# Altium integrated library TI Interface Line Driver.IntLib: 130 symbols (part 1 of 3)
Pins are listed as number, name and electrical type; pins without a type are passive.

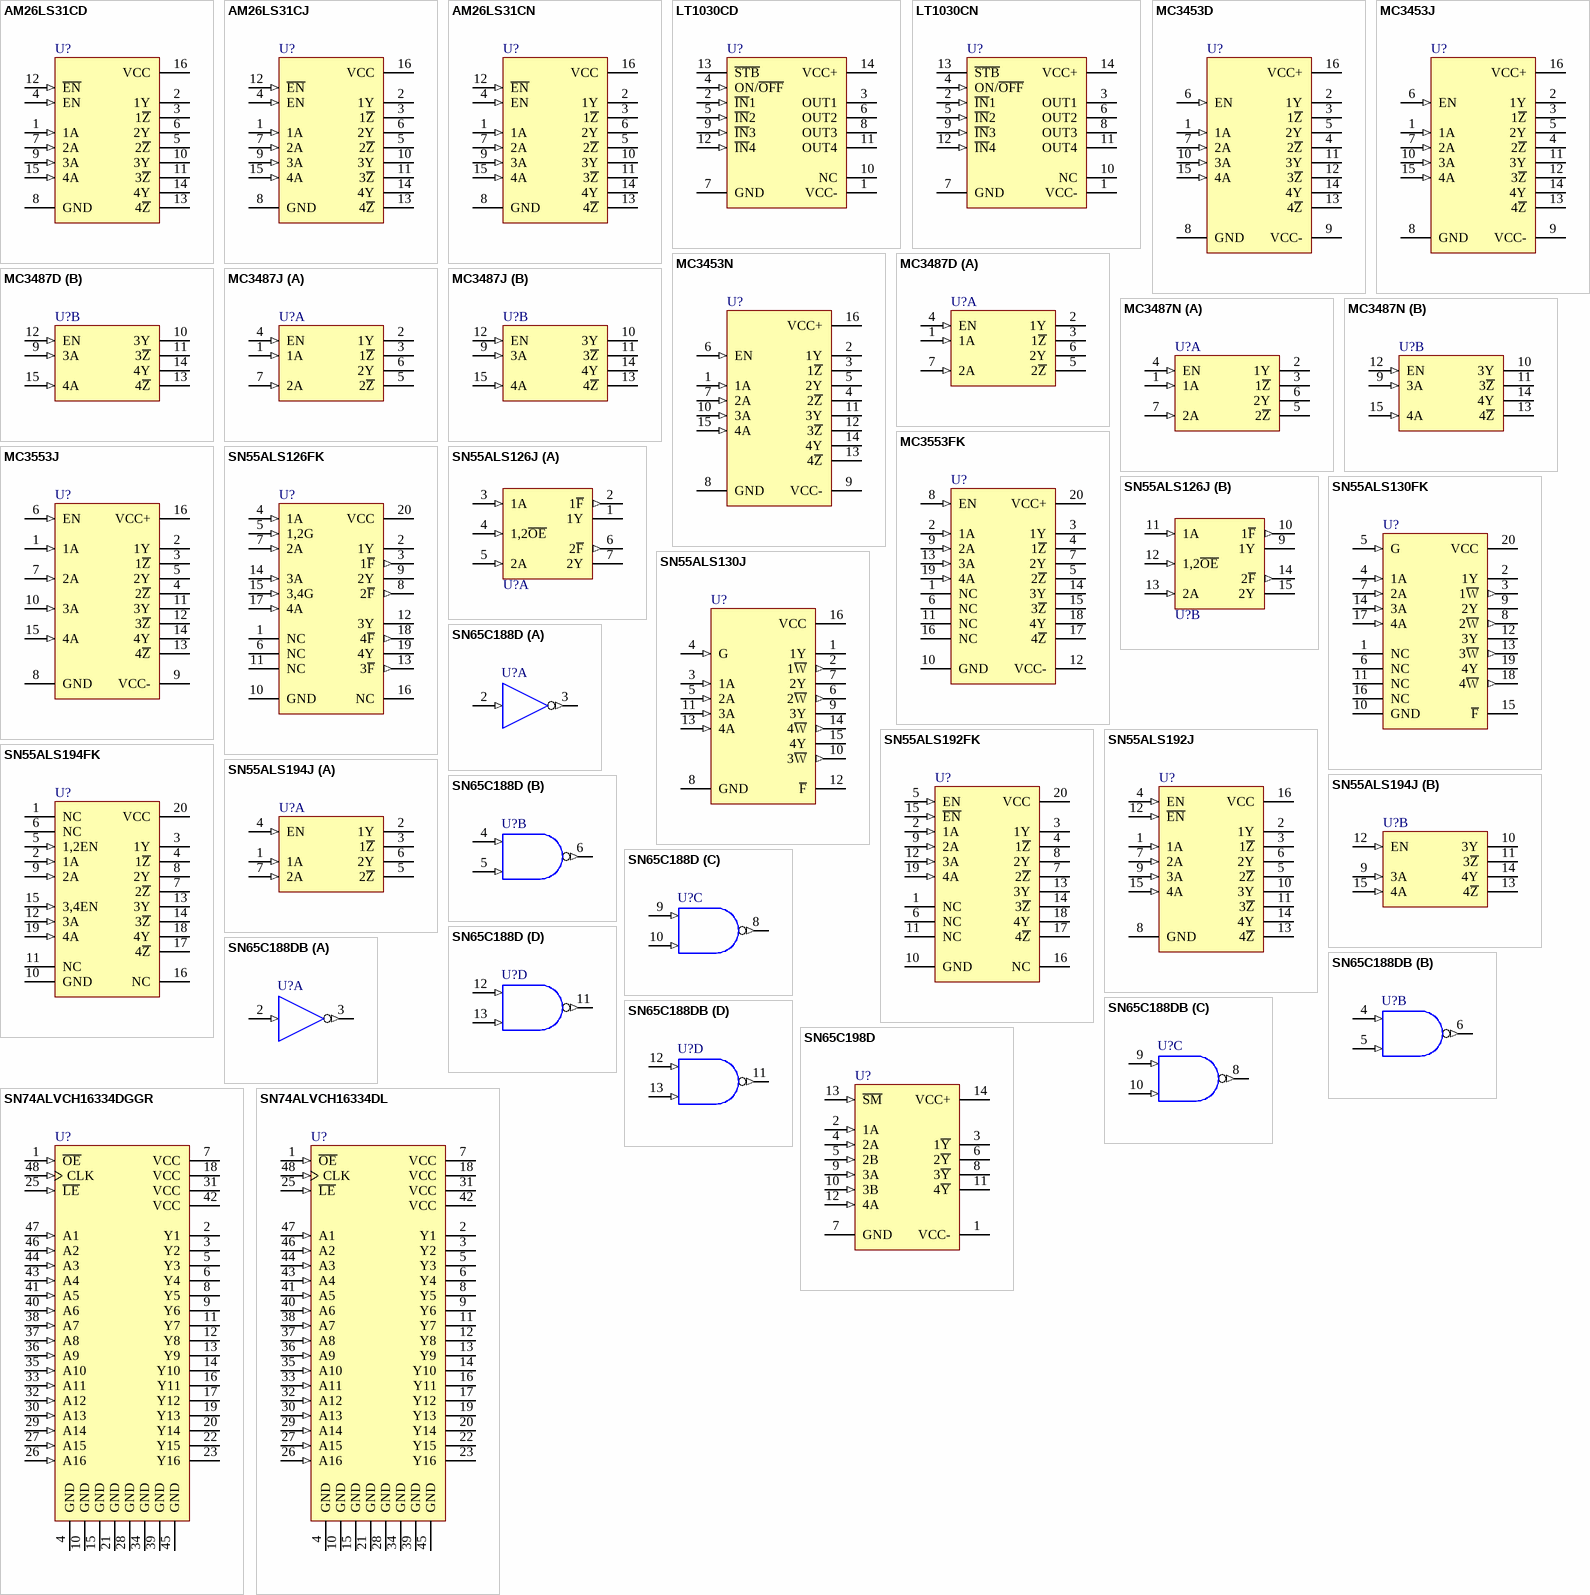
[diagram p0: symbols AM26LS31CD to SN74ALVCH16334DL]

## AM26LS31CD
designator U?
Quadruple Differential Line Driver; Published: 15-May-2002; LatestRevisionDate: 13-Apr-2006; LatestRevisionNote: IPC-7351 Footprint Added.; DatasheetVersion: May-1990; PackageVersion: Jan-1998; PackageReference: D016; Publisher: Altium Limited; PackageDescription: 16-Pin Small Outline Integrated Circuit 1.27 mm Pitch; Code_IPC: SOIC127P600-16; ComponentLink1Description: Manufacturer Link; ComponentLink1URL: http://www.ti.com/; ComponentLink2Description: Datasheet; ComponentLink2URL: http://www-s.ti.com/sc/ds/am26ls31.pdf
footprint D016_N (SOIC, 16-Leads, Body 9.9x3.9mm, Pitch 1.27mm, IPC Medium Density)
footprint D016_L (SOIC, 16-Leads, Body 9.9x3.9mm, Pitch 1.27mm, IPC High Density)
footprint D016_M (SOIC, 16-Leads, Body 9.9x3.9mm, Pitch 1.27mm, IPC Low Density)
3D model D016 (16-Pin Small Outline Integrated Circuit 1.27 mm Pitch)
pins: 1 1A (in), 2 1Y (hiz), 3 1~{Z} (hiz), 4 EN (in), 5 2~{Z} (hiz), 6 2Y (hiz), 7 2A (in), 8 GND (power), 9 3A (in), 10 3Y (hiz), 11 3~{Z} (hiz), 12 ~{EN} (in), 13 4~{Z} (hiz), 14 4Y (hiz), 15 4A (in), 16 VCC (power)

## AM26LS31CJ
designator U?
Quadruple Differential Line Driver; Published: 15-May-2002; LatestRevisionDate: 29-May-2009; LatestRevisionNote: Component Body Added.; DatasheetVersion: May-1990; PackageVersion: Jun-1999; PackageReference: J016; Publisher: Altium Limited; PackageDescription: DIP, Ceramic, 16-Pin, Row Spacing 7.62 mm, Pitch 2.54 mm; ComponentLink1Description: Manufacturer Link; ComponentLink1URL: http://www.ti.com/
footprint J016 (DIP, 16-Leads, Row Spacing 7.62mm, Pitch 2.54mm, Body 19.56x6.92mm)
3D model J016 (DIP, Ceramic, 16-Pin, Row Spacing 7.62 mm, Pitch 2.54 mm)
pins: 1 1A (in), 2 1Y (hiz), 3 1~{Z} (hiz), 4 EN (in), 5 2~{Z} (hiz), 6 2Y (hiz), 7 2A (in), 8 GND (power), 9 3A (in), 10 3Y (hiz), 11 3~{Z} (hiz), 12 ~{EN} (in), 13 4~{Z} (hiz), 14 4Y (hiz), 15 4A (in), 16 VCC (power)

## AM26LS31CN
designator U?
Quadruple Differential Line Driver; Published: 15-May-2002; LatestRevisionDate: 29-May-2009; LatestRevisionNote: Component Body Added.; DatasheetVersion: May-1990; PackageVersion: Oct-1995; PackageReference: N016; Publisher: Altium Limited; PackageDescription: DIP, 16-Pin, Row Spacing 7.62 mm, Pitch 2.54 mm; Code_JEDEC: MS-001-BB; ComponentLink1Description: Manufacturer Link; ComponentLink1URL: http://www.ti.com/; ComponentLink2Description: Datasheet; ComponentLink2URL: http://www-s.ti.com/sc/ds/am26ls31.pdf
footprint N016 (DIP, 16-Leads, Row Spacing 7.62mm, Pitch 2.54mm, Body 19.31x6.35mm)
3D model N016 (DIP, 16-Pin, Row Spacing 7.62 mm, Pitch 2.54 mm)
pins: 1 1A (in), 2 1Y (hiz), 3 1~{Z} (hiz), 4 EN (in), 5 2~{Z} (hiz), 6 2Y (hiz), 7 2A (in), 8 GND (power), 9 3A (in), 10 3Y (hiz), 11 3~{Z} (hiz), 12 ~{EN} (in), 13 4~{Z} (hiz), 14 4Y (hiz), 15 4A (in), 16 VCC (power)

## LT1030CD
designator U?
Quad Low-Power Line Driver; Published: 15-May-2002; LatestRevisionDate: 13-Apr-2006; LatestRevisionNote: IPC-7351 Footprint Added.; DatasheetVersion: Jul-1989; PackageVersion: Nov-2006; PackageReference: D014; Publisher: Altium Limited; PackageDescription: 14-Pin Small Outline Integrated Circuit 1.27 mm Pitch; Code_JEDEC: MS-012-AB; Code_IPC: SOIC127P600-14; ComponentLink1Description: Manufacturer Link; ComponentLink1URL: http://www.ti.com/; ComponentLink2Description: Datasheet; ComponentLink2URL: http://www-s.ti.com/sc/ds/lt1030.pdf
footprint D014_N (SOIC, 14-Leads, Body 8.7x3.9mm, Pitch 1.27mm, IPC Medium Density)
footprint D014_L (SOIC, 14-Leads, Body 8.7x3.9mm, Pitch 1.27mm, IPC High Density)
footprint D014_M (SOIC, 14-Leads, Body 8.7x3.9mm, Pitch 1.27mm, IPC Low Density)
3D model D014 (14-Pin Small Outline Integrated Circuit 1.27 mm Pitch)
pins: 1 VCC- (power), 2 ~{IN}1 (in), 3 OUT1 (hiz), 4 ON/~{OFF} (in), 5 ~{IN}2 (in), 6 OUT2 (hiz), 7 GND (power), 8 OUT3 (hiz), 9 ~{IN}3 (in), 10 NC, 11 OUT4 (hiz), 12 ~{IN}4 (in), 13 ~{STB}, 14 VCC+ (power)

## LT1030CN
designator U?
Quad Low-Power Line Driver; Published: 15-May-2002; LatestRevisionDate: 29-May-2009; LatestRevisionNote: Component Body Added.; DatasheetVersion: Jul-1989; PackageVersion: Oct-1995; PackageReference: N014; Publisher: Altium Limited; PackageDescription: DIP, 14-Pin, Row Spacing 7.62 mm, Pitch 2.54 mm; ComponentLink1Description: Manufacturer Link; ComponentLink1URL: http://www.ti.com/; ComponentLink2Description: Datasheet; ComponentLink2URL: http://www-s.ti.com/sc/ds/lt1030.pdf
footprint N014 (DIP, 14-Leads, Row Spacing 7.62mm, Pitch 2.54mm, Body 19.31x6.35mm)
3D model N014 (DIP, 14-Pin, Row Spacing 7.62 mm, Pitch 2.54 mm)
pins: 1 VCC- (power), 2 ~{IN}1 (in), 3 OUT1 (hiz), 4 ON/~{OFF} (in), 5 ~{IN}2 (in), 6 OUT2 (hiz), 7 GND (power), 8 OUT3 (hiz), 9 ~{IN}3 (in), 10 NC, 11 OUT4 (hiz), 12 ~{IN}4 (in), 13 ~{STB}, 14 VCC+ (power)

## MC3453D
designator U?
Quadruple Line Driver with Common Enable; Note: To minimise power dissipation, all unused outputs should be grounded.; ComponentAvailability: Obsolete; Published: 15-May-2002; LatestRevisionDate: 13-Apr-2006; LatestRevisionNote: IPC-7351 Footprint Added.; DatasheetVersion: Jul-1990; PackageVersion: Jan-1998; PackageReference: D016; Publisher: Altium Limited; PackageDescription: 16-Pin Small Outline Integrated Circuit 1.27 mm Pitch; Code_IPC: SOIC127P600-16; ComponentLink1Description: Manufacturer Link; ComponentLink1URL: http://www.ti.com/; ComponentLink2Description: Datasheet; ComponentLink2URL: http://www-s.ti.com/sc/ds/mc3453.pdf
footprint D016_N (SOIC, 16-Leads, Body 9.9x3.9mm, Pitch 1.27mm, IPC Medium Density)
footprint D016_L (SOIC, 16-Leads, Body 9.9x3.9mm, Pitch 1.27mm, IPC High Density)
footprint D016_M (SOIC, 16-Leads, Body 9.9x3.9mm, Pitch 1.27mm, IPC Low Density)
3D model D016 (16-Pin Small Outline Integrated Circuit 1.27 mm Pitch)
pins: 1 1A (in), 2 1Y (oc), 3 1~{Z} (oc), 4 2~{Z} (oc), 5 2Y (oc), 6 EN (in), 7 2A (in), 8 GND (power), 9 VCC- (power), 10 3A (in), 11 3Y (oc), 12 3~{Z} (oc), 13 4~{Z} (oc), 14 4Y (oc), 15 4A (in), 16 VCC+ (power)

## MC3453J
designator U?
Quadruple Line Driver with Common Enable; Note: To minimise power dissipation, all unused outputs should be grounded.; Published: 15-May-2002; LatestRevisionDate: 29-May-2009; LatestRevisionNote: Component Body Added.; DatasheetVersion: Jul-1990; PackageVersion: Jun-1999; PackageReference: J016; Publisher: Altium Limited; PackageDescription: DIP, Ceramic, 16-Pin, Row Spacing 7.62 mm, Pitch 2.54 mm; ComponentLink1Description: Manufacturer Link; ComponentLink1URL: http://www.ti.com/; ComponentLink2Description: Datasheet; ComponentLink2URL: http://www-s.ti.com/sc/ds/mc3453.pdf
footprint J016 (DIP, 16-Leads, Row Spacing 7.62mm, Pitch 2.54mm, Body 19.56x6.92mm)
3D model J016 (DIP, Ceramic, 16-Pin, Row Spacing 7.62 mm, Pitch 2.54 mm)
pins: 1 1A (in), 2 1Y (oc), 3 1~{Z} (oc), 4 2~{Z} (oc), 5 2Y (oc), 6 EN (in), 7 2A (in), 8 GND (power), 9 VCC- (power), 10 3A (in), 11 3Y (oc), 12 3~{Z} (oc), 13 4~{Z} (oc), 14 4Y (oc), 15 4A (in), 16 VCC+ (power)

## MC3453N
designator U?
Quadruple Line Driver with Common Enable; Note: To minimise power dissipation, all unused outputs should be grounded.; Published: 15-May-2002; LatestRevisionDate: 29-May-2009; LatestRevisionNote: Component Body Added.; DatasheetVersion: Jul-1990; PackageVersion: Oct-1995; PackageReference: N016; Publisher: Altium Limited; PackageDescription: DIP, 16-Pin, Row Spacing 7.62 mm, Pitch 2.54 mm; Code_JEDEC: MS-001-BB; ComponentLink1Description: Manufacturer Link; ComponentLink1URL: http://www.ti.com/; ComponentLink2Description: Datasheet; ComponentLink2URL: http://www-s.ti.com/sc/ds/mc3453.pdf
footprint N016 (DIP, 16-Leads, Row Spacing 7.62mm, Pitch 2.54mm, Body 19.31x6.35mm)
3D model N016 (DIP, 16-Pin, Row Spacing 7.62 mm, Pitch 2.54 mm)
pins: 1 1A (in), 2 1Y (oc), 3 1~{Z} (oc), 4 2~{Z} (oc), 5 2Y (oc), 6 EN (in), 7 2A (in), 8 GND (power), 9 VCC- (power), 10 3A (in), 11 3Y (oc), 12 3~{Z} (oc), 13 4~{Z} (oc), 14 4Y (oc), 15 4A (in), 16 VCC+ (power)

## MC3487D
designator U?
Quadruple Differential Line Driver with 3-State Output; Published: 15-May-2002; LatestRevisionDate: 13-Apr-2006; LatestRevisionNote: IPC-7351 Footprint Added.; DatasheetVersion: Sep-1986; PackageVersion: Jan-1998; PackageReference: D016; Publisher: Altium Limited; PackageDescription: 16-Pin Small Outline Integrated Circuit 1.27 mm Pitch; Code_IPC: SOIC127P600-16; ComponentLink1Description: Manufacturer Link; ComponentLink1URL: http://www.ti.com/; ComponentLink2Description: Datasheet; ComponentLink2URL: http://www-s.ti.com/sc/ds/mc3487.pdf
footprint D016_N (SOIC, 16-Leads, Body 9.9x3.9mm, Pitch 1.27mm, IPC Medium Density)
footprint D016_L (SOIC, 16-Leads, Body 9.9x3.9mm, Pitch 1.27mm, IPC High Density)
footprint D016_M (SOIC, 16-Leads, Body 9.9x3.9mm, Pitch 1.27mm, IPC Low Density)
3D model D016 (16-Pin Small Outline Integrated Circuit 1.27 mm Pitch)
pins on every part: 8 GND (power) hidden to GND, 16 VCC (power) hidden to VCC
part A pins: 1 1A (in), 2 1Y (hiz), 3 1~{Z} (hiz), 4 EN (in), 5 2~{Z} (hiz), 6 2Y (hiz), 7 2A (in)
part B pins: 9 3A (in), 10 3Y (hiz), 11 3~{Z} (hiz), 12 EN (in), 13 4~{Z} (hiz), 14 4Y (hiz), 15 4A (in)

## MC3487J
designator U?
Quadruple Differential Line Driver with 3-State Output; ComponentAvailability: Obsolete; Published: 15-May-2002; LatestRevisionDate: 29-May-2009; LatestRevisionNote: Component Body Added.; DatasheetVersion: Sep-1986; PackageVersion: Jun-1999; PackageReference: J016; Publisher: Altium Limited; PackageDescription: DIP, Ceramic, 16-Pin, Row Spacing 7.62 mm, Pitch 2.54 mm; ComponentLink1Description: Manufacturer Link; ComponentLink1URL: http://www.ti.com/; ComponentLink2Description: Datasheet; ComponentLink2URL: http://www-s.ti.com/sc/ds/mc3487.pdf
footprint J016 (DIP, 16-Leads, Row Spacing 7.62mm, Pitch 2.54mm, Body 19.56x6.92mm)
3D model J016 (DIP, Ceramic, 16-Pin, Row Spacing 7.62 mm, Pitch 2.54 mm)
pins on every part: 8 GND (power) hidden to GND, 16 VCC (power) hidden to VCC
part A pins: 1 1A (in), 2 1Y (hiz), 3 1~{Z} (hiz), 4 EN (in), 5 2~{Z} (hiz), 6 2Y (hiz), 7 2A (in)
part B pins: 9 3A (in), 10 3Y (hiz), 11 3~{Z} (hiz), 12 EN (in), 13 4~{Z} (hiz), 14 4Y (hiz), 15 4A (in)

## MC3487N
designator U?
Quadruple Differential Line Driver with 3-State Output; Published: 15-May-2002; LatestRevisionDate: 29-May-2009; LatestRevisionNote: Component Body Added.; DatasheetVersion: Sep-1986; PackageVersion: Oct-1995; PackageReference: N016; Publisher: Altium Limited; PackageDescription: DIP, 16-Pin, Row Spacing 7.62 mm, Pitch 2.54 mm; Code_JEDEC: MS-001-BB; ComponentLink1Description: Manufacturer Link; ComponentLink1URL: http://www.ti.com/; ComponentLink2Description: Datasheet; ComponentLink2URL: http://www-s.ti.com/sc/ds/mc3487.pdf
footprint N016 (DIP, 16-Leads, Row Spacing 7.62mm, Pitch 2.54mm, Body 19.31x6.35mm)
3D model N016 (DIP, 16-Pin, Row Spacing 7.62 mm, Pitch 2.54 mm)
pins on every part: 8 GND (power) hidden to GND, 16 VCC (power) hidden to VCC
part A pins: 1 1A (in), 2 1Y (hiz), 3 1~{Z} (hiz), 4 EN (in), 5 2~{Z} (hiz), 6 2Y (hiz), 7 2A (in)
part B pins: 9 3A (in), 10 3Y (hiz), 11 3~{Z} (hiz), 12 EN (in), 13 4~{Z} (hiz), 14 4Y (hiz), 15 4A (in)

## MC3553FK
designator U?
Quadruple Line Driver with Common Enable; Note: To minimise power dissipation, all unused outputs should be grounded.; Published: 15-May-2002; LatestRevisionDate: 29-May-2009; LatestRevisionNote: IPC-7351 Footprint Added.; DatasheetVersion: Oct-1988; PackageVersion: 1998; PackageReference: FK020; Publisher: Altium Limited; PackageDescription: 20-Pin Leadless Chip Carrier 1.27 mm Pitch; Code_JEDEC: MS-004-CB; ComponentLink1Description: Manufacturer Link; ComponentLink1URL: http://www.ti.com/; ComponentLink2Description: Datasheet; ComponentLink2URL: http://www-s.ti.com/sc/ds/mc3453.pdf
footprint FK020_N (Leadless Chip Carrier, 20-Leads, Body 8.9x8.9mm, Pitch 1.27mm, IPC Medium Density)
footprint FK020_L (Leadless Chip Carrier, 20-Leads, Body 8.9x8.9mm, Pitch 1.27mm, IPC High Density)
footprint FK020_M (Leadless Chip Carrier, 20-Leads, Body 8.9x8.9mm, Pitch 1.27mm, IPC Low Density)
pins: 1 NC, 2 1A (in), 3 1Y (oc), 4 1~{Z} (oc), 5 2~{Z} (oc), 6 NC, 7 2Y (oc), 8 EN (in), 9 2A (in), 10 GND (power), 11 NC, 12 VCC- (power), 13 3A (in), 14 3Y (oc), 15 3~{Z} (oc), 16 NC, 17 4~{Z} (oc), 18 4Y (oc), 19 4A (in), 20 VCC+ (power)

## MC3553J
designator U?
Quadruple Line Driver with Common Enable; Note: To minimise power dissipation, all unused outputs should be grounded.; Published: 15-May-2002; LatestRevisionDate: 29-May-2009; LatestRevisionNote: Component Body Added.; DatasheetVersion: Oct-1988; PackageVersion: Jun-1999; PackageReference: J016; Publisher: Altium Limited; PackageDescription: DIP, Ceramic, 16-Pin, Row Spacing 7.62 mm, Pitch 2.54 mm; ComponentLink1Description: Manufacturer Link; ComponentLink1URL: http://www.ti.com/; ComponentLink2Description: Datasheet; ComponentLink2URL: http://www-s.ti.com/sc/ds/mc3453.pdf
footprint J016 (DIP, 16-Leads, Row Spacing 7.62mm, Pitch 2.54mm, Body 19.56x6.92mm)
3D model J016 (DIP, Ceramic, 16-Pin, Row Spacing 7.62 mm, Pitch 2.54 mm)
pins: 1 1A (in), 2 1Y (oc), 3 1~{Z} (oc), 4 2~{Z} (oc), 5 2Y (oc), 6 EN (in), 7 2A (in), 8 GND (power), 9 VCC- (power), 10 3A (in), 11 3Y (oc), 12 3~{Z} (oc), 13 4~{Z} (oc), 14 4Y (oc), 15 4A (in), 16 VCC+ (power)

## SN55ALS126FK
designator U?
Quadruple Line Driver; Published: 15-May-2002; LatestRevisionDate: 29-May-2009; LatestRevisionNote: IPC-7351 Footprint Added.; DatasheetVersion: Oct-1989; PackageVersion: 1998; PackageReference: FK020; Publisher: Altium Limited; PackageDescription: 20-Pin Leadless Chip Carrier 1.27 mm Pitch; Code_JEDEC: MS-004-CB; ComponentLink1Description: Manufacturer Link; ComponentLink1URL: http://www.ti.com/
footprint FK020_N (Leadless Chip Carrier, 20-Leads, Body 8.9x8.9mm, Pitch 1.27mm, IPC Medium Density)
footprint FK020_L (Leadless Chip Carrier, 20-Leads, Body 8.9x8.9mm, Pitch 1.27mm, IPC High Density)
footprint FK020_M (Leadless Chip Carrier, 20-Leads, Body 8.9x8.9mm, Pitch 1.27mm, IPC Low Density)
pins: 1 NC, 2 1Y (oe), 3 1~{F} (out), 4 1A (in), 5 1,2G (in), 6 NC, 7 2A (in), 8 2~{F} (out), 9 2Y (oe), 10 GND (power), 11 NC, 12 3Y (oe), 13 3~{F} (out), 14 3A (in), 15 3,4G (in), 16 NC, 17 4A (in), 18 4~{F} (out), 19 4Y (oe), 20 VCC (power)

## SN55ALS126J
designator U?
Quadruple Line Driver; Published: 15-May-2002; LatestRevisionDate: 29-May-2009; LatestRevisionNote: Component Body Added.; DatasheetVersion: Oct-1989; PackageVersion: Jun-1999; PackageReference: J016; Publisher: Altium Limited; PackageDescription: DIP, Ceramic, 16-Pin, Row Spacing 7.62 mm, Pitch 2.54 mm; ComponentLink1Description: Manufacturer Link; ComponentLink1URL: http://www.ti.com/
footprint J016 (DIP, 16-Leads, Row Spacing 7.62mm, Pitch 2.54mm, Body 19.56x6.92mm)
3D model J016 (DIP, Ceramic, 16-Pin, Row Spacing 7.62 mm, Pitch 2.54 mm)
pins on every part: 8 GND (power) hidden to GND, 16 VCC (power) hidden to VCC
part A pins: 1 1Y (oe), 2 1~{F} (out), 3 1A (in), 4 1,2~{OE} (in), 5 2A (in), 6 2~{F} (out), 7 2Y (oe)
part B pins: 9 1Y (oe), 10 1~{F} (out), 11 1A (in), 12 1,2~{OE} (in), 13 2A (in), 14 2~{F} (out), 15 2Y (oe)

## SN55ALS130FK
designator U?
Quadruple Line Driver; Published: 15-May-2002; LatestRevisionDate: 29-May-2009; LatestRevisionNote: IPC-7351 Footprint Added.; DatasheetVersion: Aug-1989; PackageVersion: 1998; PackageReference: FK020; Publisher: Altium Limited; PackageDescription: 20-Pin Leadless Chip Carrier 1.27 mm Pitch; Code_JEDEC: MS-004-CB; ComponentLink1Description: Manufacturer Link; ComponentLink1URL: http://www.ti.com/
footprint FK020_N (Leadless Chip Carrier, 20-Leads, Body 8.9x8.9mm, Pitch 1.27mm, IPC Medium Density)
footprint FK020_L (Leadless Chip Carrier, 20-Leads, Body 8.9x8.9mm, Pitch 1.27mm, IPC High Density)
footprint FK020_M (Leadless Chip Carrier, 20-Leads, Body 8.9x8.9mm, Pitch 1.27mm, IPC Low Density)
pins: 1 NC, 2 1Y (oe), 3 1~{W} (out), 4 1A (in), 5 G (in), 6 NC, 7 2A (in), 8 2~{W} (out), 9 2Y (oe), 10 GND (power), 11 NC, 12 3Y (oe), 13 3~{W} (out), 14 3A (in), 15 ~{F} (oc), 16 NC, 17 4A (in), 18 4~{W} (out), 19 4Y (oe), 20 VCC (power)

## SN55ALS130J
designator U?
Quadruple Line Driver; Published: 15-May-2002; LatestRevisionDate: 29-May-2009; LatestRevisionNote: Component Body Added.; DatasheetVersion: Aug-1989; PackageVersion: Jun-1999; PackageReference: J016; Publisher: Altium Limited; PackageDescription: DIP, Ceramic, 16-Pin, Row Spacing 7.62 mm, Pitch 2.54 mm; ComponentLink1Description: Manufacturer Link; ComponentLink1URL: http://www.ti.com/
footprint J016 (DIP, 16-Leads, Row Spacing 7.62mm, Pitch 2.54mm, Body 19.56x6.92mm)
3D model J016 (DIP, Ceramic, 16-Pin, Row Spacing 7.62 mm, Pitch 2.54 mm)
pins: 1 1Y (oe), 2 1~{W} (out), 3 1A (in), 4 G (in), 5 2A (in), 6 2~{W} (out), 7 2Y (oe), 8 GND (power), 9 3Y (oe), 10 3~{W} (out), 11 3A (in), 12 ~{F} (oc), 13 4A (in), 14 4~{W} (out), 15 4Y (oe), 16 VCC (power)

## SN55ALS192FK
designator U?
Quadruple Differential Line Driver; Published: 15-May-2002; LatestRevisionDate: 29-May-2009; LatestRevisionNote: IPC-7351 Footprint Added.; DatasheetVersion: Jun-1986; PackageVersion: 1998; PackageReference: FK020; Publisher: Altium Limited; PackageDescription: 20-Pin Leadless Chip Carrier 1.27 mm Pitch; Code_JEDEC: MS-004-CB; ComponentLink1Description: Manufacturer Link; ComponentLink1URL: http://www.ti.com/
footprint FK020_N (Leadless Chip Carrier, 20-Leads, Body 8.9x8.9mm, Pitch 1.27mm, IPC Medium Density)
footprint FK020_L (Leadless Chip Carrier, 20-Leads, Body 8.9x8.9mm, Pitch 1.27mm, IPC High Density)
footprint FK020_M (Leadless Chip Carrier, 20-Leads, Body 8.9x8.9mm, Pitch 1.27mm, IPC Low Density)
pins: 1 NC, 2 1A (in), 3 1Y (hiz), 4 1~{Z} (hiz), 5 EN (in), 6 NC, 7 2~{Z} (hiz), 8 2Y (hiz), 9 2A (in), 10 GND (power), 11 NC, 12 3A (in), 13 3Y (hiz), 14 3~{Z} (hiz), 15 ~{EN} (in), 16 NC, 17 4~{Z} (hiz), 18 4Y (hiz), 19 4A (in), 20 VCC (power)

## SN55ALS192J
designator U?
Quadruple Differential Line Driver; ComponentAvailability: Obsolete; Published: 15-May-2002; LatestRevisionDate: 29-May-2009; LatestRevisionNote: Component Body Added.; DatasheetVersion: Jun-1986; PackageVersion: Jun-1999; PackageReference: J016; Publisher: Altium Limited; PackageDescription: DIP, Ceramic, 16-Pin, Row Spacing 7.62 mm, Pitch 2.54 mm; ComponentLink1Description: Manufacturer Link; ComponentLink1URL: http://www.ti.com/; ComponentLink2Description: URL Link1; ComponentLink2URL: http://focus.ti.com/docs/prod/folders/print/sn55als192.html
footprint J016 (DIP, 16-Leads, Row Spacing 7.62mm, Pitch 2.54mm, Body 19.56x6.92mm)
3D model J016 (DIP, Ceramic, 16-Pin, Row Spacing 7.62 mm, Pitch 2.54 mm)
pins: 1 1A (in), 2 1Y (hiz), 3 1~{Z} (hiz), 4 EN (in), 5 2~{Z} (hiz), 6 2Y (hiz), 7 2A (in), 8 GND (power), 9 3A (in), 10 3Y (hiz), 11 3~{Z} (hiz), 12 ~{EN} (in), 13 4~{Z} (hiz), 14 4Y (hiz), 15 4A (in), 16 VCC (power)

## SN55ALS194FK
designator U?
Quadruple Differential Line Driver with 3-State Output; Published: 15-May-2002; LatestRevisionDate: 29-May-2009; LatestRevisionNote: IPC-7351 Footprint Added.; DatasheetVersion: Oct-1988; PackageVersion: 1998; PackageReference: FK020; Publisher: Altium Limited; PackageDescription: 20-Pin Leadless Chip Carrier 1.27 mm Pitch; Code_JEDEC: MS-004-CB; ComponentLink1Description: Manufacturer Link; ComponentLink1URL: http://www.ti.com/
footprint FK020_N (Leadless Chip Carrier, 20-Leads, Body 8.9x8.9mm, Pitch 1.27mm, IPC Medium Density)
footprint FK020_L (Leadless Chip Carrier, 20-Leads, Body 8.9x8.9mm, Pitch 1.27mm, IPC High Density)
footprint FK020_M (Leadless Chip Carrier, 20-Leads, Body 8.9x8.9mm, Pitch 1.27mm, IPC Low Density)
pins: 1 NC, 2 1A (in), 3 1Y (hiz), 4 1~{Z} (hiz), 5 1,2EN (in), 6 NC, 7 2~{Z} (hiz), 8 2Y (hiz), 9 2A (in), 10 GND (power), 11 NC, 12 3A (in), 13 3Y (hiz), 14 3~{Z} (hiz), 15 3,4EN (in), 16 NC, 17 4~{Z} (hiz), 18 4Y (hiz), 19 4A (in), 20 VCC (power)

## SN55ALS194J
designator U?
Quadruple Differential Line Driver with 3-State Output; ComponentAvailability: Obsolete; Published: 15-May-2002; LatestRevisionDate: 29-May-2009; LatestRevisionNote: Component Body Added.; DatasheetVersion: Oct-1988; PackageVersion: Jun-1999; PackageReference: J016; Publisher: Altium Limited; PackageDescription: DIP, Ceramic, 16-Pin, Row Spacing 7.62 mm, Pitch 2.54 mm; ComponentLink1Description: Manufacturer Link; ComponentLink1URL: http://www.ti.com/; ComponentLink2Description: Datasheet; ComponentLink2URL: http://www-s.ti.com/sc/ds/sn55als194.pdf
footprint J016 (DIP, 16-Leads, Row Spacing 7.62mm, Pitch 2.54mm, Body 19.56x6.92mm)
3D model J016 (DIP, Ceramic, 16-Pin, Row Spacing 7.62 mm, Pitch 2.54 mm)
pins on every part: 8 GND (power) hidden to GND, 16 VCC (power) hidden to VCC
part A pins: 1 1A (in), 2 1Y (hiz), 3 1~{Z} (hiz), 4 EN (in), 5 2~{Z} (hiz), 6 2Y (hiz), 7 2A (in)
part B pins: 9 3A (in), 10 3Y (hiz), 11 3~{Z} (hiz), 12 EN (in), 13 4~{Z} (hiz), 14 4Y (hiz), 15 4A (in)

## SN65C188D
designator U?
Quadruple Low Power Line Driver; ComponentAvailability: Obsolete; Published: 15-May-2002; LatestRevisionDate: 13-Apr-2006; LatestRevisionNote: IPC-7351 Footprint Added.; DatasheetVersion: May-1990; PackageVersion: Nov-2006; PackageReference: D014; Publisher: Altium Limited; PackageDescription: 14-Pin Small Outline Integrated Circuit 1.27 mm Pitch; Code_JEDEC: MS-012-AB; Code_IPC: SOIC127P600-14; ComponentLink1Description: Manufacturer Link; ComponentLink1URL: http://www.ti.com/; ComponentLink2Description: URL Link1; ComponentLink2URL: http://focus.ti.com/docs/prod/folders/print/sn65c188.html
footprint D014_N (SOIC, 14-Leads, Body 8.7x3.9mm, Pitch 1.27mm, IPC Medium Density)
footprint D014_L (SOIC, 14-Leads, Body 8.7x3.9mm, Pitch 1.27mm, IPC High Density)
footprint D014_M (SOIC, 14-Leads, Body 8.7x3.9mm, Pitch 1.27mm, IPC Low Density)
3D model D014 (14-Pin Small Outline Integrated Circuit 1.27 mm Pitch)
pins on every part: 1 VCC- (power) hidden to VCC-, 7 GND (power) hidden to GND, 14 VCC+ (power) hidden to VCC+
part A pins: 2 A (in), 3 ~{Y} (out)
part B pins: 4 A (in), 5 B (in), 6 ~{Y} (out)
part C pins: 8 ~{Y} (out), 9 A (in), 10 B (in)
part D pins: 11 ~{Y} (out), 12 A (in), 13 B (in)

## SN65C188DB
designator U?
Quadruple Low Power Line Driver; Published: 15-May-2002; LatestRevisionDate: 29-May-2009; LatestRevisionNote: IPC-7351 Footprint Added.; DatasheetVersion: May-1990; PackageVersion: May-1999; PackageReference: DB014; Publisher: Altium Limited; PackageDescription: 14-Pin Plastic Small Outline Package 0.65 mm Pitch; Code_JEDEC: MO-150-AB; Code_IPC: SOP65P780-14; ComponentLink1Description: Manufacturer Link; ComponentLink1URL: http://www.ti.com/
footprint DB014_N (SOP, 14-Leads, Body 6.2x5.3mm, Pitch 0.65mm, IPC Medium Density)
footprint DB014_L (SOP, 14-Leads, Body 6.2x5.3mm, Pitch 0.65mm, IPC High Density)
footprint DB014_M (SOP, 14-Leads, Body 6.2x5.3mm, Pitch 0.65mm, IPC Low Density)
3D model DB014 (14-Pin Plastic Small Outline Package 0.65 mm Pitch)
pins on every part: 1 VCC- (power) hidden to VCC-, 7 GND (power) hidden to GND, 14 VCC+ (power) hidden to VCC+
part A pins: 2 A (in), 3 ~{Y} (out)
part B pins: 4 A (in), 5 B (in), 6 ~{Y} (out)
part C pins: 8 ~{Y} (out), 9 A (in), 10 B (in)
part D pins: 11 ~{Y} (out), 12 A (in), 13 B (in)

## SN65C198D
designator U?
Quadruple Low-Power Line Driver; ComponentAvailability: Obsolete; Published: 15-May-2002; LatestRevisionDate: 13-Apr-2006; LatestRevisionNote: IPC-7351 Footprint Added.; DatasheetVersion: Jul-1990; PackageVersion: Nov-2006; PackageReference: D014; Publisher: Altium Limited; PackageDescription: 14-Pin Small Outline Integrated Circuit 1.27 mm Pitch; Code_JEDEC: MS-012-AB; Code_IPC: SOIC127P600-14; ComponentLink1Description: Manufacturer Link; ComponentLink1URL: http://www.ti.com/; ComponentLink2Description: URL Link1; ComponentLink2URL: http://focus.ti.com/docs/prod/folders/print/sn65c198.html
footprint D014_N (SOIC, 14-Leads, Body 8.7x3.9mm, Pitch 1.27mm, IPC Medium Density)
footprint D014_L (SOIC, 14-Leads, Body 8.7x3.9mm, Pitch 1.27mm, IPC High Density)
footprint D014_M (SOIC, 14-Leads, Body 8.7x3.9mm, Pitch 1.27mm, IPC Low Density)
3D model D014 (14-Pin Small Outline Integrated Circuit 1.27 mm Pitch)
pins: 1 VCC- (power), 2 1A (in), 3 1~{Y} (hiz), 4 2A (in), 5 2B (in), 6 2~{Y} (hiz), 7 GND (power), 8 3~{Y} (hiz), 9 3A (in), 10 3B (in), 11 4~{Y} (hiz), 12 4A (in), 13 ~{SM} (in), 14 VCC+ (power)

## SN74ALVCH16334DGGR
designator U?
16-Bit Universal Bus Driver with 3-State Outputs; Note: Pin No 24 is not connected; Published: 8-Jun-2000; LatestRevisionDate: 29-May-2009; LatestRevisionNote: IPC-7351 Footprint Added.; DatasheetVersion: Feb-1999; PackageVersion: Jan-1998; PackageReference: DGG048; Publisher: Altium Limited; PackageDescription: 48-Pin Thin Shrink Small Outline Package 0.5 mm Pitch; ComponentLink1Description: Manufacturer Link; ComponentLink1URL: http://www.ti.com/; ComponentLink2Description: Datasheet; ComponentLink2URL: http://www-s.ti.com/sc/ds/sn74alvch16334.pdf
footprint DGG048_N (TSSOP, 48-Leads, Body 12.5x6.1mm, Pitch 0.5mm, IPC Medium Density)
footprint DGG048_L (TSSOP, 48-Leads, Body 12.5x6.1mm, Pitch 0.5mm, IPC High Density)
footprint DGG048_M (TSSOP, 48-Leads, Body 12.5x6.1mm, Pitch 0.5mm, IPC Low Density)
3D model DGG048 (48-Pin Thin Shrink Small Outline Package 0.5 mm Pitch)
pins: 1 ~{OE} (in), 2 Y1 (hiz), 3 Y2 (hiz), 4 GND (power), 5 Y3 (hiz), 6 Y4 (hiz), 7 VCC (power), 8 Y5 (hiz), 9 Y6 (hiz), 10 GND (power), 11 Y7 (hiz), 12 Y8 (hiz), 13 Y9 (hiz), 14 Y10 (hiz), 15 GND (power), 16 Y11 (hiz), 17 Y12 (hiz), 18 VCC (power), 19 Y13 (hiz), 20 Y14 (hiz), 21 GND (power), 22 Y15 (hiz), 23 Y16 (hiz), 25 ~{LE} (in), 26 A16 (in), 27 A15 (in), 28 GND (power), 29 A14 (in), 30 A13 (in), 31 VCC (power), 32 A12 (in), 33 A11 (in), 34 GND (power), 35 A10 (in), 36 A9 (in), 37 A8 (in), 38 A7 (in), 39 GND (power), 40 A6 (in), 41 A5 (in), 42 VCC (power), 43 A4 (in), 44 A3 (in), 45 GND (power), 46 A2 (in), 47 A1 (in), 48 CLK (in)

## SN74ALVCH16334DL
designator U?
16-Bit Universal Bus Driver with 3-State Outputs; Note: Pin No 24 is not connected; Published: 8-Jun-2000; LatestRevisionDate: 29-May-2009; LatestRevisionNote: IPC-7351 Footprint Added.; DatasheetVersion: Feb-1999; PackageVersion: Dec-2001; PackageReference: DL048; Publisher: Altium Limited; PackageDescription: 48-Pin Small Outline Package 0.635 mm Pitch; Code_JEDEC: MO-118-AA; Code_IPC: SOP635P1035-48; ComponentLink1Description: Manufacturer Link; ComponentLink1URL: http://www.ti.com/; ComponentLink2Description: Datasheet; ComponentLink2URL: http://www-s.ti.com/sc/ds/sn74alvch16334.pdf
footprint DL048_N (SOP, 48-Leads, Body 15.9x7.5mm, Pitch 0.635mm, IPC Medium Density)
footprint DL048_L (SOP, 48-Leads, Body 15.9x7.5mm, Pitch 0.635mm, IPC High Density)
footprint DL048_M (SOP, 48-Leads, Body 15.9x7.5mm, Pitch 0.635mm, IPC Low Density)
3D model DL048 (48-Pin Small Outline Package 0.635 mm Pitch)
pins: 1 ~{OE} (in), 2 Y1 (hiz), 3 Y2 (hiz), 4 GND (power), 5 Y3 (hiz), 6 Y4 (hiz), 7 VCC (power), 8 Y5 (hiz), 9 Y6 (hiz), 10 GND (power), 11 Y7 (hiz), 12 Y8 (hiz), 13 Y9 (hiz), 14 Y10 (hiz), 15 GND (power), 16 Y11 (hiz), 17 Y12 (hiz), 18 VCC (power), 19 Y13 (hiz), 20 Y14 (hiz), 21 GND (power), 22 Y15 (hiz), 23 Y16 (hiz), 25 ~{LE} (in), 26 A16 (in), 27 A15 (in), 28 GND (power), 29 A14 (in), 30 A13 (in), 31 VCC (power), 32 A12 (in), 33 A11 (in), 34 GND (power), 35 A10 (in), 36 A9 (in), 37 A8 (in), 38 A7 (in), 39 GND (power), 40 A6 (in), 41 A5 (in), 42 VCC (power), 43 A4 (in), 44 A3 (in), 45 GND (power), 46 A2 (in), 47 A1 (in), 48 CLK (in)

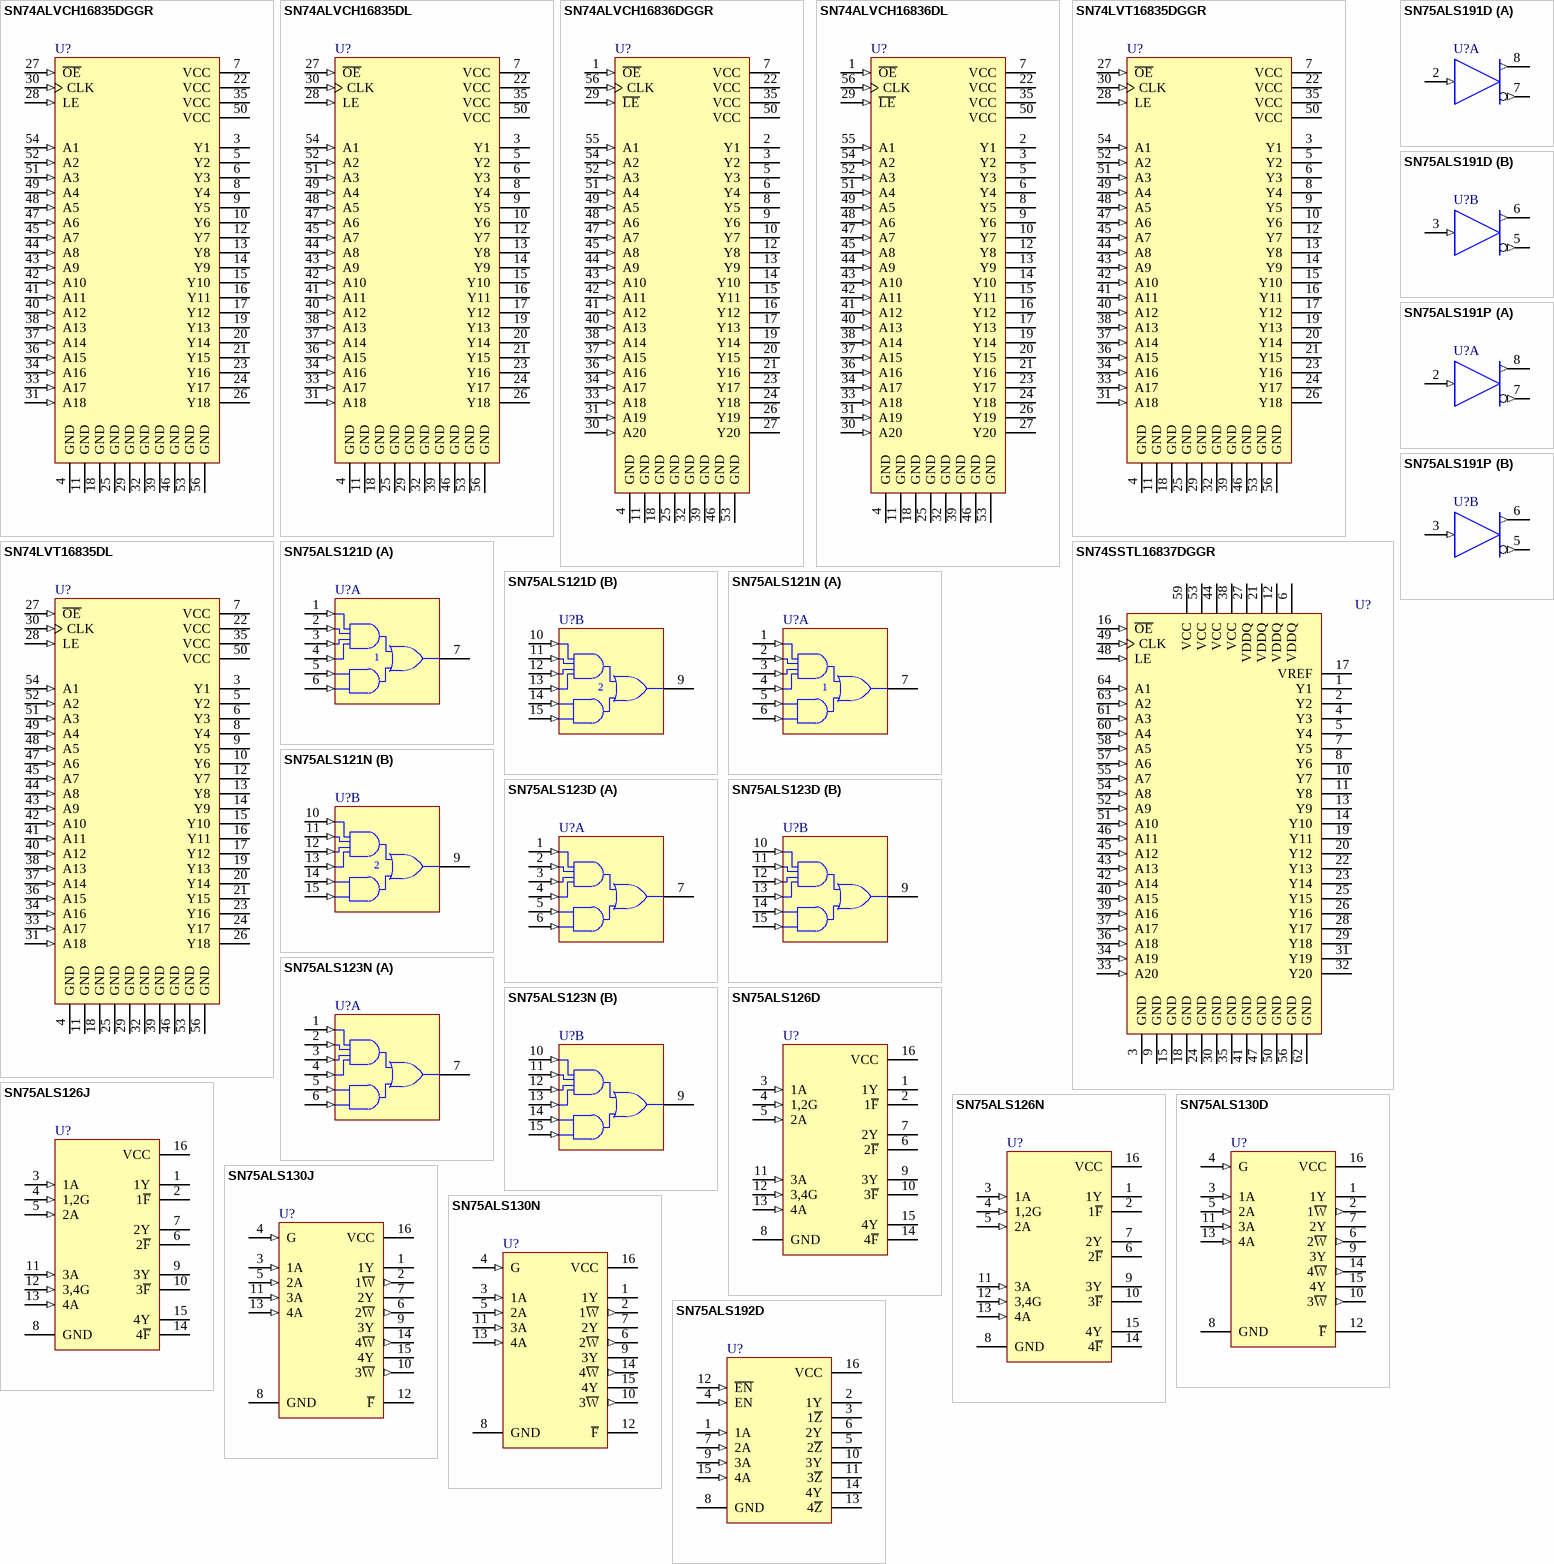
[diagram p1: symbols SN74ALVCH16835DGGR to SN75ALS192D]

## SN74ALVCH16835DGGR
designator U?
18-Bit Universal Bus Driver with 3-State Outputs; Note: Pins 1, 2 and 55 are not connected; Published: 8-Jun-2000; LatestRevisionDate: 29-May-2009; LatestRevisionNote: IPC-7351 Footprint Added.; DatasheetVersion: Feb-1999; PackageVersion: Jan-1998; PackageReference: DGG056; Publisher: Altium Limited; PackageDescription: 56-Pin Thin Shrink Small Outline Package 0.5 mm Pitch; Code_IPC: TSSOP50P810-56; ComponentLink1Description: Manufacturer Link; ComponentLink1URL: http://www.ti.com/; ComponentLink2Description: Datasheet; ComponentLink2URL: http://www-s.ti.com/sc/ds/sn74alvch16835.pdf
footprint DGG056_N (TSSOP, 56-Leads, Body 14x6.1mm, Pitch 0.5mm, IPC Medium Density)
footprint DGG056_L (TSSOP, 56-Leads, Body 14x6.1mm, Pitch 0.5mm, IPC High Density)
footprint DGG056_M (TSSOP, 56-Leads, Body 14x6.1mm, Pitch 0.5mm, IPC Low Density)
3D model DGG056 (56-Pin Thin Shrink Small Outline Package 0.5 mm Pitch)
pins: 3 Y1 (hiz), 4 GND (power), 5 Y2 (hiz), 6 Y3 (hiz), 7 VCC (power), 8 Y4 (hiz), 9 Y5 (hiz), 10 Y6 (hiz), 11 GND (power), 12 Y7 (hiz), 13 Y8 (hiz), 14 Y9 (hiz), 15 Y10 (hiz), 16 Y11 (hiz), 17 Y12 (hiz), 18 GND (power), 19 Y13 (hiz), 20 Y14 (hiz), 21 Y15 (hiz), 22 VCC (power), 23 Y16 (hiz), 24 Y17 (hiz), 25 GND (power), 26 Y18 (hiz), 27 ~{OE} (in), 28 LE (in), 29 GND (power), 30 CLK (in), 31 A18 (in), 32 GND (power), 33 A17 (in), 34 A16 (in), 35 VCC (power), 36 A15 (in), 37 A14 (in), 38 A13 (in), 39 GND (power), 40 A12 (in), 41 A11 (in), 42 A10 (in), 43 A9 (in), 44 A8 (in), 45 A7 (in), 46 GND (power), 47 A6 (in), 48 A5 (in), 49 A4 (in), 50 VCC (power), 51 A3 (in), 52 A2 (in), 53 GND (power), 54 A1 (in), 56 GND (power)

## SN74ALVCH16835DL
designator U?
18-Bit Universal Bus Driver with 3-State Outputs; Note: Pins 1, 2 and 55 are not connected; Published: 8-Jun-2000; LatestRevisionDate: 29-May-2009; LatestRevisionNote: IPC-7351 Footprint Added.; DatasheetVersion: Feb-1999; PackageVersion: Dec-2001; PackageReference: DL056; Publisher: Altium Limited; PackageDescription: 56-Pin Small Outline Package 0.635 mm Pitch; Code_JEDEC: MO-118-AB; Code_IPC: SOP635P1035-56; ComponentLink1Description: Manufacturer Link; ComponentLink1URL: http://www.ti.com/; ComponentLink2Description: Datasheet; ComponentLink2URL: http://www-s.ti.com/sc/ds/sn74alvch16835.pdf
footprint DL056_N (SOP, 56-Leads, Body 18.4x7.5mm, Pitch 0.635mm, IPC Medium Density)
footprint DL056_L (SOP, 56-Leads, Body 18.4x7.5mm, Pitch 0.635mm, IPC High Density)
footprint DL056_M (SOP, 56-Leads, Body 18.4x7.5mm, Pitch 0.635mm, IPC Low Density)
3D model DL056 (56-Pin Small Outline Package 0.635 mm Pitch)
pins: 3 Y1 (hiz), 4 GND (power), 5 Y2 (hiz), 6 Y3 (hiz), 7 VCC (power), 8 Y4 (hiz), 9 Y5 (hiz), 10 Y6 (hiz), 11 GND (power), 12 Y7 (hiz), 13 Y8 (hiz), 14 Y9 (hiz), 15 Y10 (hiz), 16 Y11 (hiz), 17 Y12 (hiz), 18 GND (power), 19 Y13 (hiz), 20 Y14 (hiz), 21 Y15 (hiz), 22 VCC (power), 23 Y16 (hiz), 24 Y17 (hiz), 25 GND (power), 26 Y18 (hiz), 27 ~{OE} (in), 28 LE (in), 29 GND (power), 30 CLK (in), 31 A18 (in), 32 GND (power), 33 A17 (in), 34 A16 (in), 35 VCC (power), 36 A15 (in), 37 A14 (in), 38 A13 (in), 39 GND (power), 40 A12 (in), 41 A11 (in), 42 A10 (in), 43 A9 (in), 44 A8 (in), 45 A7 (in), 46 GND (power), 47 A6 (in), 48 A5 (in), 49 A4 (in), 50 VCC (power), 51 A3 (in), 52 A2 (in), 53 GND (power), 54 A1 (in), 56 GND (power)

## SN74ALVCH16836DGGR
designator U?
20-Bit Universal Bus Driver with 3-State Outputs; Note: Pin 28 is not connected; Published: 8-Jun-2000; LatestRevisionDate: 29-May-2009; LatestRevisionNote: IPC-7351 Footprint Added.; DatasheetVersion: Sep-1997; PackageVersion: Jan-1998; PackageReference: DGG056; Publisher: Altium Limited; PackageDescription: 56-Pin Thin Shrink Small Outline Package 0.5 mm Pitch; Code_IPC: TSSOP50P810-56; ComponentLink1Description: Manufacturer Link; ComponentLink1URL: http://www.ti.com/
footprint DGG056_N (TSSOP, 56-Leads, Body 14x6.1mm, Pitch 0.5mm, IPC Medium Density)
footprint DGG056_L (TSSOP, 56-Leads, Body 14x6.1mm, Pitch 0.5mm, IPC High Density)
footprint DGG056_M (TSSOP, 56-Leads, Body 14x6.1mm, Pitch 0.5mm, IPC Low Density)
3D model DGG056 (56-Pin Thin Shrink Small Outline Package 0.5 mm Pitch)
pins: 1 ~{OE} (in), 2 Y1 (hiz), 3 Y2 (hiz), 4 GND (power), 5 Y3 (hiz), 6 Y4 (hiz), 7 VCC (power), 8 Y5 (hiz), 9 Y6 (hiz), 10 Y7 (hiz), 11 GND (power), 12 Y8 (hiz), 13 Y9 (hiz), 14 Y10 (hiz), 15 Y11 (hiz), 16 Y12 (hiz), 17 Y13 (hiz), 18 GND (power), 19 Y14 (hiz), 20 Y15 (hiz), 21 Y16 (hiz), 22 VCC (power), 23 Y17 (hiz), 24 Y18 (hiz), 25 GND (power), 26 Y19 (hiz), 27 Y20 (hiz), 29 ~{LE} (in), 30 A20 (in), 31 A19 (in), 32 GND (power), 33 A18 (in), 34 A17 (in), 35 VCC (power), 36 A16 (in), 37 A15 (in), 38 A14 (in), 39 GND (power), 40 A13 (in), 41 A12 (in), 42 A11 (in), 43 A10 (in), 44 A9 (in), 45 A8 (in), 46 GND (power), 47 A7 (in), 48 A6 (in), 49 A5 (in), 50 VCC (power), 51 A4 (in), 52 A3 (in), 53 GND (power), 54 A2 (in), 55 A1 (in), 56 CLK (in)

## SN74ALVCH16836DL
designator U?
20-Bit Universal Bus Driver with 3-State Outputs; Note: Pin 28 is not connected; Published: 8-Jun-2000; LatestRevisionDate: 29-May-2009; LatestRevisionNote: IPC-7351 Footprint Added.; DatasheetVersion: Sep-1997; PackageVersion: Dec-2001; PackageReference: DL056; Publisher: Altium Limited; PackageDescription: 56-Pin Small Outline Package 0.635 mm Pitch; Code_JEDEC: MO-118-AB; Code_IPC: SOP635P1035-56; ComponentLink1Description: Manufacturer Link; ComponentLink1URL: http://www.ti.com/
footprint DL056_N (SOP, 56-Leads, Body 18.4x7.5mm, Pitch 0.635mm, IPC Medium Density)
footprint DL056_L (SOP, 56-Leads, Body 18.4x7.5mm, Pitch 0.635mm, IPC High Density)
footprint DL056_M (SOP, 56-Leads, Body 18.4x7.5mm, Pitch 0.635mm, IPC Low Density)
3D model DL056 (56-Pin Small Outline Package 0.635 mm Pitch)
pins: 1 ~{OE} (in), 2 Y1 (hiz), 3 Y2 (hiz), 4 GND (power), 5 Y3 (hiz), 6 Y4 (hiz), 7 VCC (power), 8 Y5 (hiz), 9 Y6 (hiz), 10 Y7 (hiz), 11 GND (power), 12 Y8 (hiz), 13 Y9 (hiz), 14 Y10 (hiz), 15 Y11 (hiz), 16 Y12 (hiz), 17 Y13 (hiz), 18 GND (power), 19 Y14 (hiz), 20 Y15 (hiz), 21 Y16 (hiz), 22 VCC (power), 23 Y17 (hiz), 24 Y18 (hiz), 25 GND (power), 26 Y19 (hiz), 27 Y20 (hiz), 29 ~{LE} (in), 30 A20 (in), 31 A19 (in), 32 GND (power), 33 A18 (in), 34 A17 (in), 35 VCC (power), 36 A16 (in), 37 A15 (in), 38 A14 (in), 39 GND (power), 40 A13 (in), 41 A12 (in), 42 A11 (in), 43 A10 (in), 44 A9 (in), 45 A8 (in), 46 GND (power), 47 A7 (in), 48 A6 (in), 49 A5 (in), 50 VCC (power), 51 A4 (in), 52 A3 (in), 53 GND (power), 54 A2 (in), 55 A1 (in), 56 CLK (in)

## SN74LVT16835DGGR
designator U?
3.3-V ABT 18-Bit Universal Bus Driver with 3-State Outputs; Note: Pins 1, 2 and 55 are not connected; Published: 8-Jun-2000; LatestRevisionDate: 29-May-2009; LatestRevisionNote: IPC-7351 Footprint Added.; DatasheetVersion: Nov-1996; PackageVersion: Jan-1998; PackageReference: DGG056; Publisher: Altium Limited; PackageDescription: 56-Pin Thin Shrink Small Outline Package 0.5 mm Pitch; Code_IPC: TSSOP50P810-56; ComponentLink1Description: Manufacturer Link; ComponentLink1URL: http://www.ti.com/; ComponentLink2Description: Datasheet; ComponentLink2URL: http://www-s.ti.com/sc/ds/sn74lvt16835.pdf
footprint DGG056_N (TSSOP, 56-Leads, Body 14x6.1mm, Pitch 0.5mm, IPC Medium Density)
footprint DGG056_L (TSSOP, 56-Leads, Body 14x6.1mm, Pitch 0.5mm, IPC High Density)
footprint DGG056_M (TSSOP, 56-Leads, Body 14x6.1mm, Pitch 0.5mm, IPC Low Density)
3D model DGG056 (56-Pin Thin Shrink Small Outline Package 0.5 mm Pitch)
signal-integrity model SN74LVT16835DGGR
pins: 3 Y1 (hiz), 4 GND (power), 5 Y2 (hiz), 6 Y3 (hiz), 7 VCC (power), 8 Y4 (hiz), 9 Y5 (hiz), 10 Y6 (hiz), 11 GND (power), 12 Y7 (hiz), 13 Y8 (hiz), 14 Y9 (hiz), 15 Y10 (hiz), 16 Y11 (hiz), 17 Y12 (hiz), 18 GND (power), 19 Y13 (hiz), 20 Y14 (hiz), 21 Y15 (hiz), 22 VCC (power), 23 Y16 (hiz), 24 Y17 (hiz), 25 GND (power), 26 Y18 (hiz), 27 ~{OE} (in), 28 LE (in), 29 GND (power), 30 CLK (in), 31 A18 (in), 32 GND (power), 33 A17 (in), 34 A16 (in), 35 VCC (power), 36 A15 (in), 37 A14 (in), 38 A13 (in), 39 GND (power), 40 A12 (in), 41 A11 (in), 42 A10 (in), 43 A9 (in), 44 A8 (in), 45 A7 (in), 46 GND (power), 47 A6 (in), 48 A5 (in), 49 A4 (in), 50 VCC (power), 51 A3 (in), 52 A2 (in), 53 GND (power), 54 A1 (in), 56 GND (power)

## SN74LVT16835DL
designator U?
3.3-V ABT 18-Bit Universal Bus Driver with 3-State Outputs; Note: Pins 1, 2 and 55 are not connected; Published: 8-Jun-2000; LatestRevisionDate: 29-May-2009; LatestRevisionNote: IPC-7351 Footprint Added.; DatasheetVersion: Nov-1996; PackageVersion: Dec-2001; PackageReference: DL056; Publisher: Altium Limited; PackageDescription: 56-Pin Small Outline Package 0.635 mm Pitch; Code_JEDEC: MO-118-AB; Code_IPC: SOP635P1035-56; ComponentLink1Description: Manufacturer Link; ComponentLink1URL: http://www.ti.com/; ComponentLink2Description: Datasheet; ComponentLink2URL: http://www-s.ti.com/sc/ds/sn74lvt16835.pdf
footprint DL056_N (SOP, 56-Leads, Body 18.4x7.5mm, Pitch 0.635mm, IPC Medium Density)
footprint DL056_L (SOP, 56-Leads, Body 18.4x7.5mm, Pitch 0.635mm, IPC High Density)
footprint DL056_M (SOP, 56-Leads, Body 18.4x7.5mm, Pitch 0.635mm, IPC Low Density)
3D model DL056 (56-Pin Small Outline Package 0.635 mm Pitch)
signal-integrity model SN74LVT16835DL
pins: 3 Y1 (hiz), 4 GND (power), 5 Y2 (hiz), 6 Y3 (hiz), 7 VCC (power), 8 Y4 (hiz), 9 Y5 (hiz), 10 Y6 (hiz), 11 GND (power), 12 Y7 (hiz), 13 Y8 (hiz), 14 Y9 (hiz), 15 Y10 (hiz), 16 Y11 (hiz), 17 Y12 (hiz), 18 GND (power), 19 Y13 (hiz), 20 Y14 (hiz), 21 Y15 (hiz), 22 VCC (power), 23 Y16 (hiz), 24 Y17 (hiz), 25 GND (power), 26 Y18 (hiz), 27 ~{OE} (in), 28 LE (in), 29 GND (power), 30 CLK (in), 31 A18 (in), 32 GND (power), 33 A17 (in), 34 A16 (in), 35 VCC (power), 36 A15 (in), 37 A14 (in), 38 A13 (in), 39 GND (power), 40 A12 (in), 41 A11 (in), 42 A10 (in), 43 A9 (in), 44 A8 (in), 45 A7 (in), 46 GND (power), 47 A6 (in), 48 A5 (in), 49 A4 (in), 50 VCC (power), 51 A3 (in), 52 A2 (in), 53 GND (power), 54 A1 (in), 56 GND (power)

## SN74SSTL16837DGGR
designator U?
20-Bit SSTL_3 Interface Universal Bus Driver with 3-State Outputs; ComponentAvailability: Obsolete; Published: 8-Jun-2000; LatestRevisionDate: 29-May-2009; LatestRevisionNote: IPC-7351 Footprint Added.; DatasheetVersion: Dec-1997; PackageVersion: Jan-1998; PackageReference: DGG064; Publisher: Altium Limited; PackageDescription: 64-Pin Thin Shrink Small Outline Package 0.5 mm Pitch; Code_JEDEC: MO-153; Code_IPC: TSSOP50P810-64; ComponentLink1Description: Manufacturer Link; ComponentLink1URL: http://www.ti.com/; ComponentLink2Description: URL Link1; ComponentLink2URL: http://focus.ti.com/docs/prod/folders/print/sn74sstl16837.html
footprint DGG064_N (TSSOP, 64-Leads, Body 17x6.1mm, Pitch 0.5mm, IPC Medium Density)
footprint DGG064_L (TSSOP, 64-Leads, Body 17x6.1mm, Pitch 0.5mm, IPC High Density)
footprint DGG064_M (TSSOP, 64-Leads, Body 17x6.1mm, Pitch 0.5mm, IPC Low Density)
3D model DGG064 (64-Pin Thin Shrink Small Outline Package 0.5 mm Pitch)
pins: 1 Y1 (hiz), 2 Y2 (hiz), 3 GND (power), 4 Y3 (hiz), 5 Y4 (hiz), 6 VDDQ (power), 7 Y5 (hiz), 8 Y6 (hiz), 9 GND (power), 10 Y7 (hiz), 11 Y8 (hiz), 12 VDDQ (power), 13 Y9 (hiz), 14 Y10 (hiz), 15 GND (power), 16 ~{OE} (in), 17 VREF (power), 18 GND (power), 19 Y11 (hiz), 20 Y12 (hiz), 21 VDDQ (power), 22 Y13 (hiz), 23 Y14 (hiz), 24 GND (power), 25 Y15 (hiz), 26 Y16 (hiz), 27 VDDQ (power), 28 Y17 (hiz), 29 Y18 (hiz), 30 GND (power), 31 Y19 (hiz), 32 Y20 (hiz), 33 A20 (in), 34 A19 (in), 35 GND (power), 36 A18 (in), 37 A17 (in), 38 VCC (power), 39 A16 (in), 40 A15 (in), 41 GND (power), 42 A14 (in), 43 A13 (in), 44 VCC (power), 45 A12 (in), 46 A11 (in), 47 GND (power), 48 LE (in), 49 CLK (in), 50 GND (power), 51 A10 (in), 52 A9 (in), 53 VCC (power), 54 A8 (in), 55 A7 (in), 56 GND (power), 57 A6 (in), 58 A5 (in), 59 VCC (power), 60 A4 (in), 61 A3 (in), 62 GND (power), 63 A2 (in), 64 A1 (in)

## SN75ALS121D
designator U?
Dual Line Driver; Published: 15-May-2002; LatestRevisionDate: 13-Apr-2006; LatestRevisionNote: IPC-7351 Footprint Added.; DatasheetVersion: Aug-1989; PackageVersion: Jan-1998; PackageReference: D016; Publisher: Altium Limited; PackageDescription: 16-Pin Small Outline Integrated Circuit 1.27 mm Pitch; Code_IPC: SOIC127P600-16; ComponentLink1Description: Manufacturer Link; ComponentLink1URL: http://www.ti.com/; ComponentLink2Description: Datasheet; ComponentLink2URL: http://www-s.ti.com/sc/ds/sn75als121.pdf
footprint D016_N (SOIC, 16-Leads, Body 9.9x3.9mm, Pitch 1.27mm, IPC Medium Density)
footprint D016_L (SOIC, 16-Leads, Body 9.9x3.9mm, Pitch 1.27mm, IPC High Density)
footprint D016_M (SOIC, 16-Leads, Body 9.9x3.9mm, Pitch 1.27mm, IPC Low Density)
3D model D016 (16-Pin Small Outline Integrated Circuit 1.27 mm Pitch)
pins on every part: 8 GND (power) hidden to GND, 16 VCC (power) hidden to VCC
part A pins: 1 A (in), 2 B (in), 3 C (in), 4 D (in), 5 E (in), 6 F (in), 7 Y (oe)
part B pins: 9 Y (oe), 10 A (in), 11 B (in), 12 C (in), 13 D (in), 14 E (in), 15 F (in)

## SN75ALS121N
designator U?
Dual Line Driver; ComponentAvailability: Obsolete; Published: 15-May-2002; LatestRevisionDate: 29-May-2009; LatestRevisionNote: Component Body Added.; DatasheetVersion: Aug-1989; PackageVersion: Oct-1995; PackageReference: N016; Publisher: Altium Limited; PackageDescription: DIP, 16-Pin, Row Spacing 7.62 mm, Pitch 2.54 mm; Code_JEDEC: MS-001-BB; ComponentLink1Description: Manufacturer Link; ComponentLink1URL: http://www.ti.com/; ComponentLink2Description: Datasheet; ComponentLink2URL: http://www-s.ti.com/sc/ds/sn75als121.pdf; ComponentLink3Description: URL Link1; ComponentLink3URL: http://focus.ti.com/docs/prod/folders/print/sn75als121.html
footprint N016 (DIP, 16-Leads, Row Spacing 7.62mm, Pitch 2.54mm, Body 19.31x6.35mm)
3D model N016 (DIP, 16-Pin, Row Spacing 7.62 mm, Pitch 2.54 mm)
pins on every part: 8 GND (power) hidden to GND, 16 VCC (power) hidden to VCC
part A pins: 1 A (in), 2 B (in), 3 C (in), 4 D (in), 5 E (in), 6 F (in), 7 Y (oe)
part B pins: 9 Y (oe), 10 A (in), 11 B (in), 12 C (in), 13 D (in), 14 E (in), 15 F (in)

## SN75ALS123D
designator U?
Dual Line Driver; ComponentAvailability: Obsolete; Published: 15-May-2002; LatestRevisionDate: 13-Apr-2006; LatestRevisionNote: IPC-7351 Footprint Added.; DatasheetVersion: Aug-1989; PackageVersion: Jan-1998; PackageReference: D016; Publisher: Altium Limited; PackageDescription: 16-Pin Small Outline Integrated Circuit 1.27 mm Pitch; Code_IPC: SOIC127P600-16; ComponentLink1Description: Manufacturer Link; ComponentLink1URL: http://www.ti.com/; ComponentLink2Description: Datasheet; ComponentLink2URL: http://www-s.ti.com/sc/ds/sn75als123.pdf; ComponentLink3Description: URL Link1; ComponentLink3URL: http://focus.ti.com/docs/prod/folders/print/sn75als123.html
footprint D016_N (SOIC, 16-Leads, Body 9.9x3.9mm, Pitch 1.27mm, IPC Medium Density)
footprint D016_L (SOIC, 16-Leads, Body 9.9x3.9mm, Pitch 1.27mm, IPC High Density)
footprint D016_M (SOIC, 16-Leads, Body 9.9x3.9mm, Pitch 1.27mm, IPC Low Density)
3D model D016 (16-Pin Small Outline Integrated Circuit 1.27 mm Pitch)
pins on every part: 8 GND (power) hidden to GND, 16 VCC (power) hidden to VCC
part A pins: 1 A (in), 2 B (in), 3 C (in), 4 D (in), 5 E (in), 6 F (in), 7 Y (oe)
part B pins: 9 Y (oe), 10 A (in), 11 B (in), 12 C (in), 13 D (in), 14 E (in), 15 F (in)

## SN75ALS123N
designator U?
Dual Line Driver; ComponentAvailability: Obsolete; Published: 15-May-2002; LatestRevisionDate: 29-May-2009; LatestRevisionNote: Component Body Added.; DatasheetVersion: Aug-1989; PackageVersion: Oct-1995; PackageReference: N016; Publisher: Altium Limited; PackageDescription: DIP, 16-Pin, Row Spacing 7.62 mm, Pitch 2.54 mm; Code_JEDEC: MS-001-BB; ComponentLink1Description: Manufacturer Link; ComponentLink1URL: http://www.ti.com/; ComponentLink2Description: Datasheet; ComponentLink2URL: http://www-s.ti.com/sc/ds/sn75als123.pdf; ComponentLink3Description: URL Link1; ComponentLink3URL: http://focus.ti.com/docs/prod/folders/print/sn75als123.html
footprint N016 (DIP, 16-Leads, Row Spacing 7.62mm, Pitch 2.54mm, Body 19.31x6.35mm)
3D model N016 (DIP, 16-Pin, Row Spacing 7.62 mm, Pitch 2.54 mm)
pins on every part: 8 GND (power) hidden to GND, 16 VCC (power) hidden to VCC
part A pins: 1 A (in), 2 B (in), 3 C (in), 4 D (in), 5 E (in), 6 F (in), 7 Y (oe)
part B pins: 9 Y (oe), 10 A (in), 11 B (in), 12 C (in), 13 D (in), 14 E (in), 15 F (in)

## SN75ALS126D
designator U?
Quadruple Line Driver; ComponentAvailability: Obsolete; Published: 15-May-2002; LatestRevisionDate: 20-Jul-2007; LatestRevisionNote: Sch Symbol changed.; DatasheetVersion: Oct-1989; PackageVersion: Jan-1998; PackageReference: D016; Publisher: Altium Limited; PackageDescription: 16-Pin Small Outline Integrated Circuit 1.27 mm Pitch; Code_IPC: SOIC127P600-16; ComponentLink1Description: Manufacturer Link; ComponentLink1URL: http://www.ti.com/; ComponentLink2Description: Datasheet; ComponentLink2URL: http://www-s.ti.com/sc/ds/sn75als126.pdf
footprint D016_N (SOIC, 16-Leads, Body 9.9x3.9mm, Pitch 1.27mm, IPC Medium Density)
footprint D016_L (SOIC, 16-Leads, Body 9.9x3.9mm, Pitch 1.27mm, IPC High Density)
footprint D016_M (SOIC, 16-Leads, Body 9.9x3.9mm, Pitch 1.27mm, IPC Low Density)
3D model D016 (16-Pin Small Outline Integrated Circuit 1.27 mm Pitch)
pins: 1 1Y, 2 1~{F} (oe), 3 1A (in), 4 1,2G (in), 5 2A (in), 6 2~{F} (oe), 7 2Y, 8 GND (power), 9 3Y, 10 3~{F} (oe), 11 3A (in), 12 3,4G (in), 13 4A (in), 14 4~{F} (oe), 15 4Y, 16 VCC (power)

## SN75ALS126J
designator U?
Quadruple Line Driver; Published: 15-May-2002; LatestRevisionDate: 29-May-2009; LatestRevisionNote: Component Body Added.; DatasheetVersion: Oct-1989; PackageVersion: Jun-1999; PackageReference: J016; Publisher: Altium Limited; PackageDescription: DIP, Ceramic, 16-Pin, Row Spacing 7.62 mm, Pitch 2.54 mm; ComponentLink1Description: Manufacturer Link; ComponentLink1URL: http://www.ti.com/
footprint J016 (DIP, 16-Leads, Row Spacing 7.62mm, Pitch 2.54mm, Body 19.56x6.92mm)
3D model J016 (DIP, Ceramic, 16-Pin, Row Spacing 7.62 mm, Pitch 2.54 mm)
pins: 1 1Y, 2 1~{F} (oe), 3 1A (in), 4 1,2G (in), 5 2A (in), 6 2~{F} (oe), 7 2Y, 8 GND (power), 9 3Y, 10 3~{F} (oe), 11 3A (in), 12 3,4G (in), 13 4A (in), 14 4~{F} (oe), 15 4Y, 16 VCC (power)

## SN75ALS126N
designator U?
Quadruple Line Driver; Published: 15-May-2002; LatestRevisionDate: 29-May-2009; LatestRevisionNote: Component Body Added.; DatasheetVersion: Oct-1989; PackageVersion: Oct-1995; PackageReference: N016; Publisher: Altium Limited; PackageDescription: DIP, 16-Pin, Row Spacing 7.62 mm, Pitch 2.54 mm; Code_JEDEC: MS-001-BB; ComponentLink1Description: Manufacturer Link; ComponentLink1URL: http://www.ti.com/; ComponentLink2Description: Datasheet; ComponentLink2URL: http://www-s.ti.com/sc/ds/sn75als126.pdf
footprint N016 (DIP, 16-Leads, Row Spacing 7.62mm, Pitch 2.54mm, Body 19.31x6.35mm)
3D model N016 (DIP, 16-Pin, Row Spacing 7.62 mm, Pitch 2.54 mm)
pins: 1 1Y, 2 1~{F} (oe), 3 1A (in), 4 1,2G (in), 5 2A (in), 6 2~{F} (oe), 7 2Y, 8 GND (power), 9 3Y, 10 3~{F} (oe), 11 3A (in), 12 3,4G (in), 13 4A (in), 14 4~{F} (oe), 15 4Y, 16 VCC (power)

## SN75ALS130D
designator U?
Quadruple Line Driver; ComponentAvailability: Obsolete; Published: 15-May-2002; LatestRevisionDate: 13-Apr-2006; LatestRevisionNote: IPC-7351 Footprint Added.; DatasheetVersion: Aug-1989; PackageVersion: Jan-1998; PackageReference: D016; Publisher: Altium Limited; PackageDescription: 16-Pin Small Outline Integrated Circuit 1.27 mm Pitch; Code_IPC: SOIC127P600-16; ComponentLink1Description: Manufacturer Link; ComponentLink1URL: http://www.ti.com/; ComponentLink2Description: Datasheet; ComponentLink2URL: http://www-s.ti.com/sc/ds/sn75als130.pdf
footprint D016_N (SOIC, 16-Leads, Body 9.9x3.9mm, Pitch 1.27mm, IPC Medium Density)
footprint D016_L (SOIC, 16-Leads, Body 9.9x3.9mm, Pitch 1.27mm, IPC High Density)
footprint D016_M (SOIC, 16-Leads, Body 9.9x3.9mm, Pitch 1.27mm, IPC Low Density)
3D model D016 (16-Pin Small Outline Integrated Circuit 1.27 mm Pitch)
pins: 1 1Y (oe), 2 1~{W} (out), 3 1A (in), 4 G (in), 5 2A (in), 6 2~{W} (out), 7 2Y (oe), 8 GND (power), 9 3Y (oe), 10 3~{W} (out), 11 3A (in), 12 ~{F} (oc), 13 4A (in), 14 4~{W} (out), 15 4Y (oe), 16 VCC (power)

## SN75ALS130J
designator U?
Quadruple Line Driver; Published: 15-May-2002; LatestRevisionDate: 29-May-2009; LatestRevisionNote: Component Body Added.; DatasheetVersion: Aug-1989; PackageVersion: Jun-1999; PackageReference: J016; Publisher: Altium Limited; PackageDescription: DIP, Ceramic, 16-Pin, Row Spacing 7.62 mm, Pitch 2.54 mm; ComponentLink1Description: Manufacturer Link; ComponentLink1URL: http://www.ti.com/
footprint J016 (DIP, 16-Leads, Row Spacing 7.62mm, Pitch 2.54mm, Body 19.56x6.92mm)
3D model J016 (DIP, Ceramic, 16-Pin, Row Spacing 7.62 mm, Pitch 2.54 mm)
pins: 1 1Y (oe), 2 1~{W} (out), 3 1A (in), 4 G (in), 5 2A (in), 6 2~{W} (out), 7 2Y (oe), 8 GND (power), 9 3Y (oe), 10 3~{W} (out), 11 3A (in), 12 ~{F} (oc), 13 4A (in), 14 4~{W} (out), 15 4Y (oe), 16 VCC (power)

## SN75ALS130N
designator U?
Quadruple Line Driver; Published: 15-May-2002; LatestRevisionDate: 29-May-2009; LatestRevisionNote: Component Body Added.; DatasheetVersion: Aug-1989; PackageVersion: Oct-1995; PackageReference: N016; Publisher: Altium Limited; PackageDescription: DIP, 16-Pin, Row Spacing 7.62 mm, Pitch 2.54 mm; Code_JEDEC: MS-001-BB; ComponentLink1Description: Manufacturer Link; ComponentLink1URL: http://www.ti.com/; ComponentLink2Description: Datasheet; ComponentLink2URL: http://www-s.ti.com/sc/ds/sn75als130.pdf
footprint N016 (DIP, 16-Leads, Row Spacing 7.62mm, Pitch 2.54mm, Body 19.31x6.35mm)
3D model N016 (DIP, 16-Pin, Row Spacing 7.62 mm, Pitch 2.54 mm)
pins: 1 1Y (oe), 2 1~{W} (out), 3 1A (in), 4 G (in), 5 2A (in), 6 2~{W} (out), 7 2Y (oe), 8 GND (power), 9 3Y (oe), 10 3~{W} (out), 11 3A (in), 12 ~{F} (oc), 13 4A (in), 14 4~{W} (out), 15 4Y (oe), 16 VCC (power)